# Altium schematic symbol library lamp_controller.SchLib: 88 symbols (part 2 of 3)
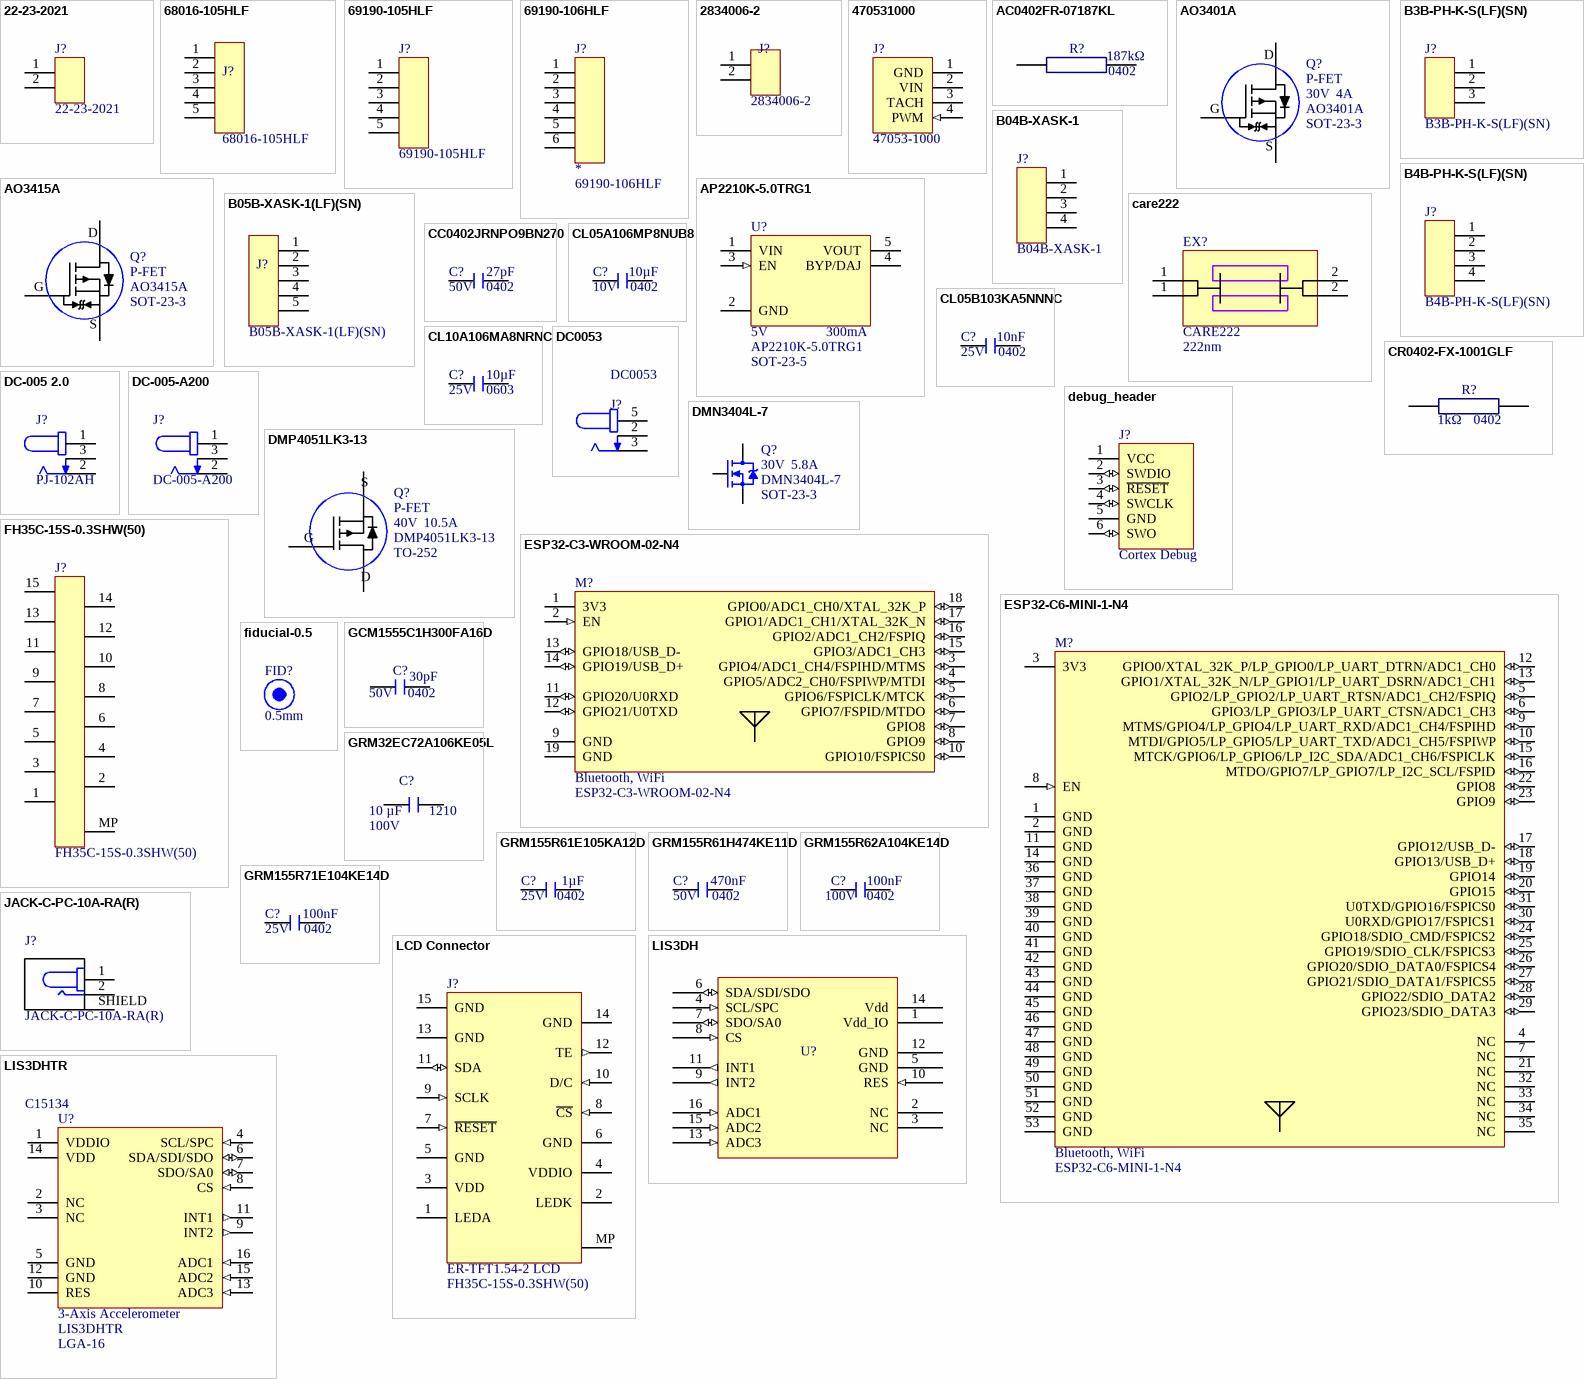
[diagram p3: symbols 22-23-2021 to LIS3DHTR]

## GRM155R61E105KA12D
designator C?  Size Code: 0402  Capacitance: 1µF  Voltage: 25V  (hidden comment: GRM155R61E105KA12D)
1 µF, 25 V, X5R, 0402 Chip capacitor; Manufacturer: Murata; house_part_number: C-1uF-0402-002; Dielectric Material: Ceramic; Multilayer: Yes; Negative Tolerance: 10%; Supplier 1: Digi-Key; Supplier Part Number 1: 490-10017-1-ND; RoHS: Yes; Category: Ceramic Capacitors; Stock 1: 145965; Pricing 1: 1=0.11000, 10=0.08300, 50=0.04560, 100=0.03720, 500=0.02656, 1000=0.02087, 2500=0.01898, 5000=0.01746 (USD); Mount: Surface Mount; Number of Pins: 2; Package Shape: Rectangular; Terminal Finish: Nickel; Min Operating Temperature: -55°C; Max Operating Temperature: 85°C; JESD-609 Code: e3; Capacitor Type: Ceramic; Package Style: SMTMeter; Packaging: Tape and Reel; Positive Tolerance: 10%; Temperature Characteristics Code: X5R; Termination: Wraparound; Length: 1mm; Width: 0.5mm; Height: 0.5mm; REACH SVHC: Yes; RoHS Compliant: Yes; ComponentLink1URL: https://datasheet.ciiva.com:443/pdfs/VipMasterIC/IC/MURE/MURE-S-A0004362469/MURE-S-A0004364524-1.pdf?src-supplier=IHS+Markit; ComponentLink1Description: https://datasheet.ciiva.com:443/pdfs/VipMasterIC/IC/MURE/MURE-S-A0004362469/MURE-S-A0004364524-1.pdf?src-supplier=IHS+Markit; ComponentLink2URL: https://datasheet.ciiva.com/7719/1666664-7719006.pdf?src-supplier=Element14; ComponentLink2Description: https://datasheet.ciiva.com/7719/1666664-7719006.pdf?src-supplier=Element14; ComponentLink3URL: https://datasheet.ciiva.com/22732/1666664-22732122.pdf?src-supplier=Element14; ComponentLink3Description: https://datasheet.ciiva.com/22732/1666664-22732122.pdf?src-supplier=Element14; Manufacturer Part Number: GRM155R61E105KA12D
footprint 0402_capacitor (0402 chip capacitor)
pins: 1, 2

## GRM155R61H474KE11D
designator C?  Package: 0402  Voltage Rating (DC): 50V  Capacitance: 470nF  (hidden comment: GRM155R61H474KE11D)
470 nF, 50 V, X5R, 0402 Chip capacitor; Manufacturer: Murata; house_part_number: C-470nF-0402-002; Tolerance: 10%; Supplier 1: Digi-Key; Supplier Part Number 1: 490-16354-1-ND; RoHS: Yes; Category: Ceramic Capacitors; Pricing 1: 1=0.20000, 10=0.14600, 50=0.08260, 100=0.06840, 500=0.04798, 1000=0.03972, 2500=0.03696, 5000=0.03382 (USD); Dielectric: X5R; Length: 1mm; Width: 500um; Thickness: 500um; RoHS Compliant: Yes; ComponentLink1URL: http://search.murata.co.jp/Ceramy/image/img/A01X/G101/ENG/GRM155R61H474KE11-01.pdf?src-supplier=Digi-Key; ComponentLink1Description: http://search.murata.co.jp/Ceramy/image/img/A01X/G101/ENG/GRM155R61H474KE11-01.pdf?src-supplier=Digi-Key; ComponentLink2URL: https://search.murata.co.jp/Ceramy/image/img/A01X/G101/ENG/GRM155R61H474KE11-01.pdf?src-supplier=Digi-Key; ComponentLink2Description: https://search.murata.co.jp/Ceramy/image/img/A01X/G101/ENG/GRM155R61H474KE11-01.pdf?src-supplier=Digi-Key; Manufacturer Part Number: GRM155R61H474KE11D
footprint 0402_capacitor (0402 chip capacitor)
pins: 1, 2

## GRM155R62A104KE14D
designator C?  value 100nF  Case/Package: 0402  Rated DC Voltage (URdc): 100V  (hidden comment: *)
100 nF, 100 V, X7R, 0402 Chip capacitor; Manufacturer: Murata; Manufacturer Part Number: GRM155R62A104KE14D; Dielectric Material: Ceramic; Multilayer: Yes; Tolerance  (fill in as +-): 10%; Temperature Characteristics Code: X5R; Supplier 1: LCSC; RoHS: Yes; Category: Ceramic Capacitors; Stock 1: 283300; Pricing 1: 50=0.0085, 500=0.0066, 1500=0.0057, 10000=0.0051, 20000=0.0048, 50000=0.0047 (USD); Mounting Technology: Surface Mount; Pins: 2; Package Shape: Rectangular; Terminal Finish: Nickel; Min Operating Temperature: -55°C; Max Operating Temperature: 85°C; JESD-609 Code: e3; Capacitor Type: Ceramic; Packaging: Tape and Reel; Tolerance (fill in as +-): 10%; Termination: Wraparound; Reach SVHC Compliant: Yes; RoHS Compliant: Yes; ComponentLink1URL: https://datasheet.ciiva.com:443/pdfs/VipMasterIC/IC/MURE/MURE-S-A0004362469/MURE-S-A0004364737-1.pdf?src-supplier=IHS+Markit; ComponentLink1Description: https://datasheet.ciiva.com:443/pdfs/VipMasterIC/IC/MURE/MURE-S-A0004362469/MURE-S-A0004364737-1.pdf?src-supplier=IHS+Markit; ComponentLink2URL: http://www.farnell.com/datasheets/2079151.pdf?src-supplier=Farnell; ComponentLink2Description: http://www.farnell.com/datasheets/2079151.pdf?src-supplier=Farnell; ComponentLink3URL: http://www.mouser.com/ds/2/281/c02e-2905.pdf?src-supplier=Mouser; ComponentLink3Description: http://www.mouser.com/ds/2/281/c02e-2905.pdf?src-supplier=Mouser; ComponentLink4URL: http://www.farnell.com/datasheets/2079151.pdf?src-supplier=Element14; ComponentLink4Description: http://www.farnell.com/datasheets/2079151.pdf?src-supplier=Element14; ComponentLink5URL: http://www.farnell.com/datasheets/2079151.pdf?src-supplier=Newark; ComponentLink5Description: http://www.farnell.com/datasheets/2079151.pdf?src-supplier=Newark; ComponentLink6URL: https://datasheet.octopart.com/GRM155R62A104KE14D-Murata-datasheet-149523038.pdf?src-supplier=Newark; ComponentLink6Description: https://datasheet.octopart.com/GRM155R62A104KE14D-Murata-datasheet-149523038.pdf?src-supplier=Newark; ComponentLink7URL: https://datasheet.octopart.com/GRM155R62A104KE14D-Murata-datasheet-66077071.pdf?src-supplier=Element14; ComponentLink7Description: https://datasheet.octopart.com/GRM155R62A104KE14D-Murata-datasheet-66077071.pdf?src-supplier=Element14; ComponentLink8URL: http://search.murata.co.jp/Ceramy/image/img/A01X/G101/ENG/GRM155R62A104KE14-01.pdf?src-supplier=Digikey; ComponentLink8Description: http://search.murata.co.jp/Ceramy/image/img/A01X/G101/ENG/GRM155R62A104KE14-01.pdf?src-supplier=Digikey; ComponentLink9URL: https://datasheet.octopart.com/GRM155R62A104KE14D-Murata-datasheet-22122223.pdf?src-supplier=Future+Electronics; ComponentLink9Description: https://datasheet.octopart.com/GRM155R62A104KE14D-Murata-datasheet-22122223.pdf?src-supplier=Future+Electronics; ComponentLink10URL: https://datasheet.octopart.com/GRM155R62A104KE14D-Murata-datasheet-165579666.pdf?src-supplier=TME; ComponentLink10Description: https://datasheet.octopart.com/GRM155R62A104KE14D-Murata-datasheet-165579666.pdf?src-supplier=TME; Supplier Part Number 1: C162178
footprint 0402_capacitor (0402 chip capacitor)
pins: 1, 2

## GRM155R71E104KE14D
designator C?  Case Code (Imperial): 0402  Voltage: 25V  Capacitance: 100nF  (hidden comment: GRM155R71E104KE14D)
100 nF, 25 V, X7R, 0402 Chip capacitor; Manufacturer: Murata; house_part_number: C-100nF-0402-002; Dielectric Material: Ceramic; Tolerance: 10%; Supplier 1: Digi-Key; Supplier Part Number 1: 490-10698-1-ND; RoHS: Yes; Category: Ceramic Capacitors; Pricing 1: 1=0.10000, 10=0.02700, 50=0.01460, 100=0.01190, 500=0.00848, 1000=0.00666, 2500=0.00605, 5000=0.00557 (USD); Mount: Surface Mount; Case/Package: 0402; Case Code (Metric): 1005; Weight: 0.000212oz; Min Operating Temperature: -55°C; Max Operating Temperature: 125°C; Packaging: Tape and Reel; Voltage Rating: 25V; Dielectric: X7R; Termination: SMD/SMT; Resistor Type: Ceramic; Voltage Rating (DC): 25V; Package Quantity: 10000; Length: 1mm; Width: 0.02inch; Height: 0.5mm; Thickness: 0.022inch; Depth: 0.5mm; REACH SVHC: Unknown; Lead Free: Lead Free; RoHS Compliant: Yes; ComponentLink1URL: http://www.farnell.com/datasheets/1872206.pdf?src-supplier=Farnell; ComponentLink1Description: http://www.farnell.com/datasheets/1872206.pdf?src-supplier=Farnell; ComponentLink2URL: http://components.arrow.com/part/dataview/0323_06361249?src-supplier=Arrow+Europe; ComponentLink2Description: http://components.arrow.com/part/dataview/0323_06361249?src-supplier=Arrow+Europe; ComponentLink3URL: http://uk.rs-online.com/webdocs/144c/0900766b8144c113.pdf?src-supplier=RSComponents; ComponentLink3Description: http://uk.rs-online.com/webdocs/144c/0900766b8144c113.pdf?src-supplier=RSComponents; ComponentLink4URL: http://www.farnell.com/datasheets/2048008.pdf?src-supplier=Farnell; ComponentLink4Description: http://www.farnell.com/datasheets/2048008.pdf?src-supplier=Farnell; ComponentLink5URL: http://www.mouser.com/ds/2/281/c02e-2905.pdf?src-supplier=Mouser; ComponentLink5Description: http://www.mouser.com/ds/2/281/c02e-2905.pdf?src-supplier=Mouser; ComponentLink6URL: http://www.farnell.com/datasheets/2048008.pdf?src-supplier=Newark; ComponentLink6Description: http://www.farnell.com/datasheets/2048008.pdf?src-supplier=Newark; ComponentLink7URL: https://search.murata.co.jp/Ceramy/image/img/A01X/G101/ENG/GRM155R71E104KE14-01.pdf?src-supplier=Digi-Key; ComponentLink7Description: https://search.murata.co.jp/Ceramy/image/img/A01X/G101/ENG/GRM155R71E104KE14-01.pdf?src-supplier=Digi-Key; ComponentLink8URL: http://www.farnell.com/datasheets/2048008.pdf?src-supplier=Element14; ComponentLink8Description: http://www.farnell.com/datasheets/2048008.pdf?src-supplier=Element14; ComponentLink9URL: http://psearch.en.murata.com/capacitor/product/GRM155R71E104KE14%23.pdf?src-supplier=Avnet; ComponentLink9Description: http://psearch.en.murata.com/capacitor/product/GRM155R71E104KE14%23.pdf?src-supplier=Avnet; Manufacturer Part Number: GRM155R71E104KE14D
footprint 0402_capacitor (0402 chip capacitor)
pins: 1, 2

## JACK-C-PC-10A-RA(R)
designator J?  Manufacturer Part Number: JACK-C-PC-10A-RA(R)  (hidden comment: *)
5.50mm x 2.1mm, 10 A, right angle barrel connector; Manufacturer: GlobTek; Connector Type: Jack; Gender: Male; Shielding: Shielded; Supplier 1: Digi-Key; RoHS: No; Category: Power Connectors; Stock 1: 3147; Pricing 1: 1=3.86, 10=3.506, 25=3.3204, 50=3.2432, 100=3.0888, 250=2.70272, 500=2.62548, 1000=2.23938, 2500=2.08494 (USD); Mounting Technology: Through Hole; Contact Plating: Nickel; Contact Material: Copper; Housing Material: Polyphthalamide; Min Operating Temperature: -25°C; Max Operating Temperature: 85°C; Packaging: Bulk; Termination: Solder; Series: -; ComponentLink1URL: https://www.globtek.com/pdf/manual-datasheets/JACK-C-PC-10A-RA%28R%29.pdf?src-supplier=Digi-Key; ComponentLink1Description: https://www.globtek.com/pdf/manual-datasheets/JACK-C-PC-10A-RA%28R%29.pdf?src-supplier=Digi-Key; Supplier Part Number 1: 1939-1086-ND
footprint JACK-C-PC-10A-RA(R) (5.5mm x 2.1mm right angle barrel jack)
pins: 1, 2, SHIELD

## LCD Connector
designator J?, comment ER-TFT1.54-2 LCD  Manufacturer Part Number: FH35C-15S-0.3SHW(50)
ER-TFT1.54-2 1.54" IPS LCD, 240x240, ST7789 controller, FH35C-15S-0.3SHW(50) connector, top and bottom contacts; Manufacturer: HRS; Connector Type: CARD EDGE CONNECTOR; Contact Pattern: STAGGERED; Contact Resistance: 100mR; Contact Style: BELLOWED TYPE; Dielectric Withstanding Voltage (AC): 90V; Durability: 10Cycles; Insulation Resistance: 50MR; Number Of PCB Rows: 2; Rated Current (Signal): 200mA; Number of Contacts: 15; Body Breadth: 0.035inch; Body Depth: 0.132inch; Body Length: 0.24inch; Mating Contact Pitch: 0.024inch; Mounting Option 1: LOCKING; PCB Contact Row Spacing: 2.8702mm; Reliability: COMMERCIAL; Supplier 1: Digikey; Category: FFC / FPC; Stock 1: 3489; Pricing 1: 1=1.87, 10=1.525, 25=1.4056, 50=1.3216, 100=1.2428, 250=1.14576, 500=1.07746, 1000=1.01326, 2500=0.9375 (USD); Mounting Technology: Board; Contact Material: Bronze; Contact Finish - Mating: AU ON NI; Min Operating Temperature: -55°C; Max Operating Temperature: 85°C; Mounting Style: RIGHT ANGLE; Number of Rows Loaded: 2; PCB Contact Pattern: STAGGERED; Termination: SMD/SMT; Terminal Pitch: 0.6096mm; RoHS Compliant: Yes; ComponentLink1URL: https://datasheet.ciiva.com:443/pdfs/VipMasterIC/IC/HIRO/HIRO-S-A0001800865/HIRO-S-A0001800865-1.pdf?src-supplier=IHS+Markit; ComponentLink1Description: https://datasheet.ciiva.com:443/pdfs/VipMasterIC/IC/HIRO/HIRO-S-A0001800865/HIRO-S-A0001800865-1.pdf?src-supplier=IHS+Markit; ComponentLink2URL: https://datasheet.ciiva.com/29758/ed-fh35c-20140305-29758967.pdf?src-supplier=Digikey; ComponentLink2Description: https://datasheet.ciiva.com/29758/ed-fh35c-20140305-29758967.pdf?src-supplier=Digikey; Supplier Part Number 1: 26-FH35C-15S-0.3SHW(50)CT-ND
footprint FH35C-15S-0.3SHW(50) (Flat flex connector)
pins: 1 LEDA "LED Anode", 2 LEDK "LED Cathode", 3 VDD (power) "Power Supply for Analog", 4 VDDIO (power) "Power Supply for I/O System.", 5 GND (power), 6 GND (power), 7 ~{RESET} (in) "This signal will reset the device and it must be applied to properly initialize the chip. Signal is active low.", 8 ~{CS} (in) "Chip selection Pin. Low=Enable High=Disable", 9 SCLK (in) "This pin is used to be serial interface clock.", 10 D/C (in) "Display data/command selection pin in 4-line serial interface.", 11 SDA (io) "SPI interface input/output pin. The data is latched on the rising edge of the SCL signal.", 12 TE (out) "Tearing effect signal is used to synchronize MCU to frame memory writing", 13 GND (power), 14 GND (power), 15 GND (power), MP "Connector mounting pad"

## LIS3DH
designator U?, comment Accelerometer, LGA-16  (value not drawn)
ACCEL 2-16G I2C/SPI 16LGA; Manufacturer: STMicroelectronics; Manufacturer Part Number: LIS3DHTR; Interface: I2C,SPI; Axis: X, Y, Z; Bandwidth: 5kHz; Output Type: Digital; Sensor Type: 3 Axis; Max Supply Voltage: 3.6V; Min Supply Voltage: 1.71V; Resolution: 16b; Operating Supply Voltage: 2.5V; Operating Supply Current: 11uA; Supplier: Mouser; Supplier Part Number: 511-LIS3DHTR; RoHS: Yes; Category: Accelerometers; Stock: 29398; Pricing: 1=2.06, 10=1.41, 50=1.41, 100=1.3, 500=1.19, 1000=1.11, 4000=0.984, 8000=0.936, 10000=0.936 (USD); Case/Package: LGA; Pins: 16; Min Operating Temperature: -40°C; Max Operating Temperature: 85°C; Series: -; Packaging: Tape and Reel; Package Quantity: 4000; Max Supply Voltage (DC): 3.6V; Min Supply Voltage (DC): 1.71V; Length: 3mm; Width: 3mm; Height: 1mm; Depth: 3mm; Radiation Hardening: No; Lead Free: Lead Free; RoHS Compliant: Yes; Reach SVHC Compliant: No; ComponentLink1URL: https://datasheet.ciiva.com/7621/1718591-7621744.pdf?src-supplier=Element14; ComponentLink1Description: https://datasheet.ciiva.com/7621/1718591-7621744.pdf?src-supplier=Element14; ComponentLink2URL: https://datasheet.ciiva.com/5296/cd00274221-117431-5296513.pdf?src-supplier=Mouser; ComponentLink2Description: https://datasheet.ciiva.com/5296/cd00274221-117431-5296513.pdf?src-supplier=Mouser; ComponentLink3URL: https://datasheet.ciiva.com/2810/cd00274221-2810009.pdf?src-supplier=Digi-Key; ComponentLink3Description: https://datasheet.ciiva.com/2810/cd00274221-2810009.pdf?src-supplier=Digi-Key; ComponentLink4URL: https://datasheet.ciiva.com/2810/cd00274221-2810008.pdf?src-supplier=Digi-Key; ComponentLink4Description: https://datasheet.ciiva.com/2810/cd00274221-2810008.pdf?src-supplier=Digi-Key; ComponentLink5URL: https://datasheet.ciiva.com/2810/cd00274221-2810010.pdf?src-supplier=Digi-Key; ComponentLink5Description: https://datasheet.ciiva.com/2810/cd00274221-2810010.pdf?src-supplier=Digi-Key; ComponentLink6URL: https://datasheet.ciiva.com/48495/cd00274221-48495849.pdf?src-supplier=Avnet; ComponentLink6Description: https://datasheet.ciiva.com/48495/cd00274221-48495849.pdf?src-supplier=Avnet; ComponentLink7URL: https://datasheet.ciiva.com/3271/cd00274221-3271807.pdf?src-supplier=Avnet; ComponentLink7Description: https://datasheet.ciiva.com/3271/cd00274221-3271807.pdf?src-supplier=Avnet; ComponentLink8URL: https://datasheet.ciiva.com/16216/cd00274221-16216362.pdf?src-supplier=Future+Electronics; ComponentLink8Description: https://datasheet.ciiva.com/16216/cd00274221-16216362.pdf?src-supplier=Future+Electronics
footprint PQFN50P300X300X100-16N (PQFN, 16-Leads, Body 3.00x3.00mm, Pitch 0.50mm, IPC Medium Density)
pins: 1 Vdd_IO (power) "Power supply for I/O pins", 2 NC "Not connected", 3 NC "Not connected", 4 SCL/SPC (in) "Clock", 5 GND (power) "0V supply", 6 SDA/SDI/SDO (io) "I2C Serial data/SPI data in/3-wire data out", 7 SDO/SA0 (io) "SPI serial data output (SDO)/I2C address LSB", 8 CS (in) "Low: SPI enabled/ High: I2C enabled", 9 INT2 (out) "Inertial interrupt 2", 10 RES (in) "Connect to GND", 11 INT1 (out) "Inertial interrupt 1", 12 GND (power) "0V supply", 13 ADC3 (in) "Analog-to-digital converter input 3", 14 Vdd (power) "Power supply", 15 ADC2 (in) "Analog-to-digital converter input 2", 16 ADC1 (in) "Analog-to-digital converter input 1"

## LIS3DHTR
designator U?, comment 3-Axis Accelerometer  Case/Package: LGA-16  Manufacturer Part Number: LIS3DHTR  Supplier Part Number 1: C15134
3-Axis accelerometer, 16-bit, I2C/SPI, LGA-16; Manufacturer: STMicroelectronics; Max Supply Voltage: 3.6V; Min Supply Voltage: 1.71V; Operating Supply Voltage: 2.5V; Bandwidth: 5kHz; Interface: I2C,SPI; Resolution: 16b; Operating Supply Current: 11uA; Sensor Type: 3 Axis; Output Type: Digital; Axis: X, Y, Z; Supplier: Avnet; Supplier Part Number: LIS3DHTR; RoHS: Yes; Category: Accelerometers; Stock: 40000; Pricing: 4000=0.94095, 8000=0.92155, 16000=0.90215 (USD); Pins: 16; Min Operating Temperature: -40°C; Max Operating Temperature: 85°C; Package Quantity: 4000; Packaging: Tape and Reel; Max Supply Voltage (DC): 3.6V; Min Supply Voltage (DC): 1.71V; Series: -; Length: 3mm; Width: 3mm; Height: 1mm; Depth: 3mm; Radiation Hardening: No; Reach SVHC Compliant: No; Lead Free: Lead Free; RoHS Compliant: Yes; ComponentLink1URL: https://datasheet.ciiva.com/7621/1718591-7621744.pdf?src-supplier=Element14; ComponentLink1Description: https://datasheet.ciiva.com/7621/1718591-7621744.pdf?src-supplier=Element14; ComponentLink2URL: https://datasheet.ciiva.com/5296/cd00274221-117431-5296513.pdf?src-supplier=Mouser; ComponentLink2Description: https://datasheet.ciiva.com/5296/cd00274221-117431-5296513.pdf?src-supplier=Mouser; ComponentLink3URL: https://datasheet.ciiva.com/2810/cd00274221-2810009.pdf?src-supplier=Digikey; ComponentLink3Description: https://datasheet.ciiva.com/2810/cd00274221-2810009.pdf?src-supplier=Digikey; ComponentLink4URL: https://datasheet.ciiva.com/2810/cd00274221-2810008.pdf?src-supplier=Digikey; ComponentLink4Description: https://datasheet.ciiva.com/2810/cd00274221-2810008.pdf?src-supplier=Digikey; ComponentLink5URL: https://datasheet.ciiva.com/2810/cd00274221-2810010.pdf?src-supplier=Digikey; ComponentLink5Description: https://datasheet.ciiva.com/2810/cd00274221-2810010.pdf?src-supplier=Digikey; ComponentLink6URL: https://datasheet.ciiva.com/48495/cd00274221-48495849.pdf?src-supplier=Avnet; ComponentLink6Description: https://datasheet.ciiva.com/48495/cd00274221-48495849.pdf?src-supplier=Avnet; ComponentLink7URL: https://datasheet.ciiva.com/3271/cd00274221-3271807.pdf?src-supplier=Avnet; ComponentLink7Description: https://datasheet.ciiva.com/3271/cd00274221-3271807.pdf?src-supplier=Avnet; ComponentLink8URL: https://datasheet.ciiva.com/16216/cd00274221-16216362.pdf?src-supplier=Future+Electronics; ComponentLink8Description: https://datasheet.ciiva.com/16216/cd00274221-16216362.pdf?src-supplier=Future+Electronics; Supplier 1: LCSC; house_part_number: LIS3DHTR
footprint LGA50P300X300X100-16N (LGA, 16-Leads, Body 3.00x3.00mm, Pitch 0.50mm, IPC Medium Density)
pins: 1 VDDIO (power), 2 NC (power), 3 NC (power), 4 SCL/SPC (in), 5 GND (power), 6 SDA/SDI/SDO (io), 7 SDO/SA0 (io), 8 CS (in), 9 INT2 (out), 10 RES (power), 11 INT1 (out), 12 GND (power), 13 ADC3 (in), 14 VDD (power), 15 ADC2 (in), 16 ADC1 (in)

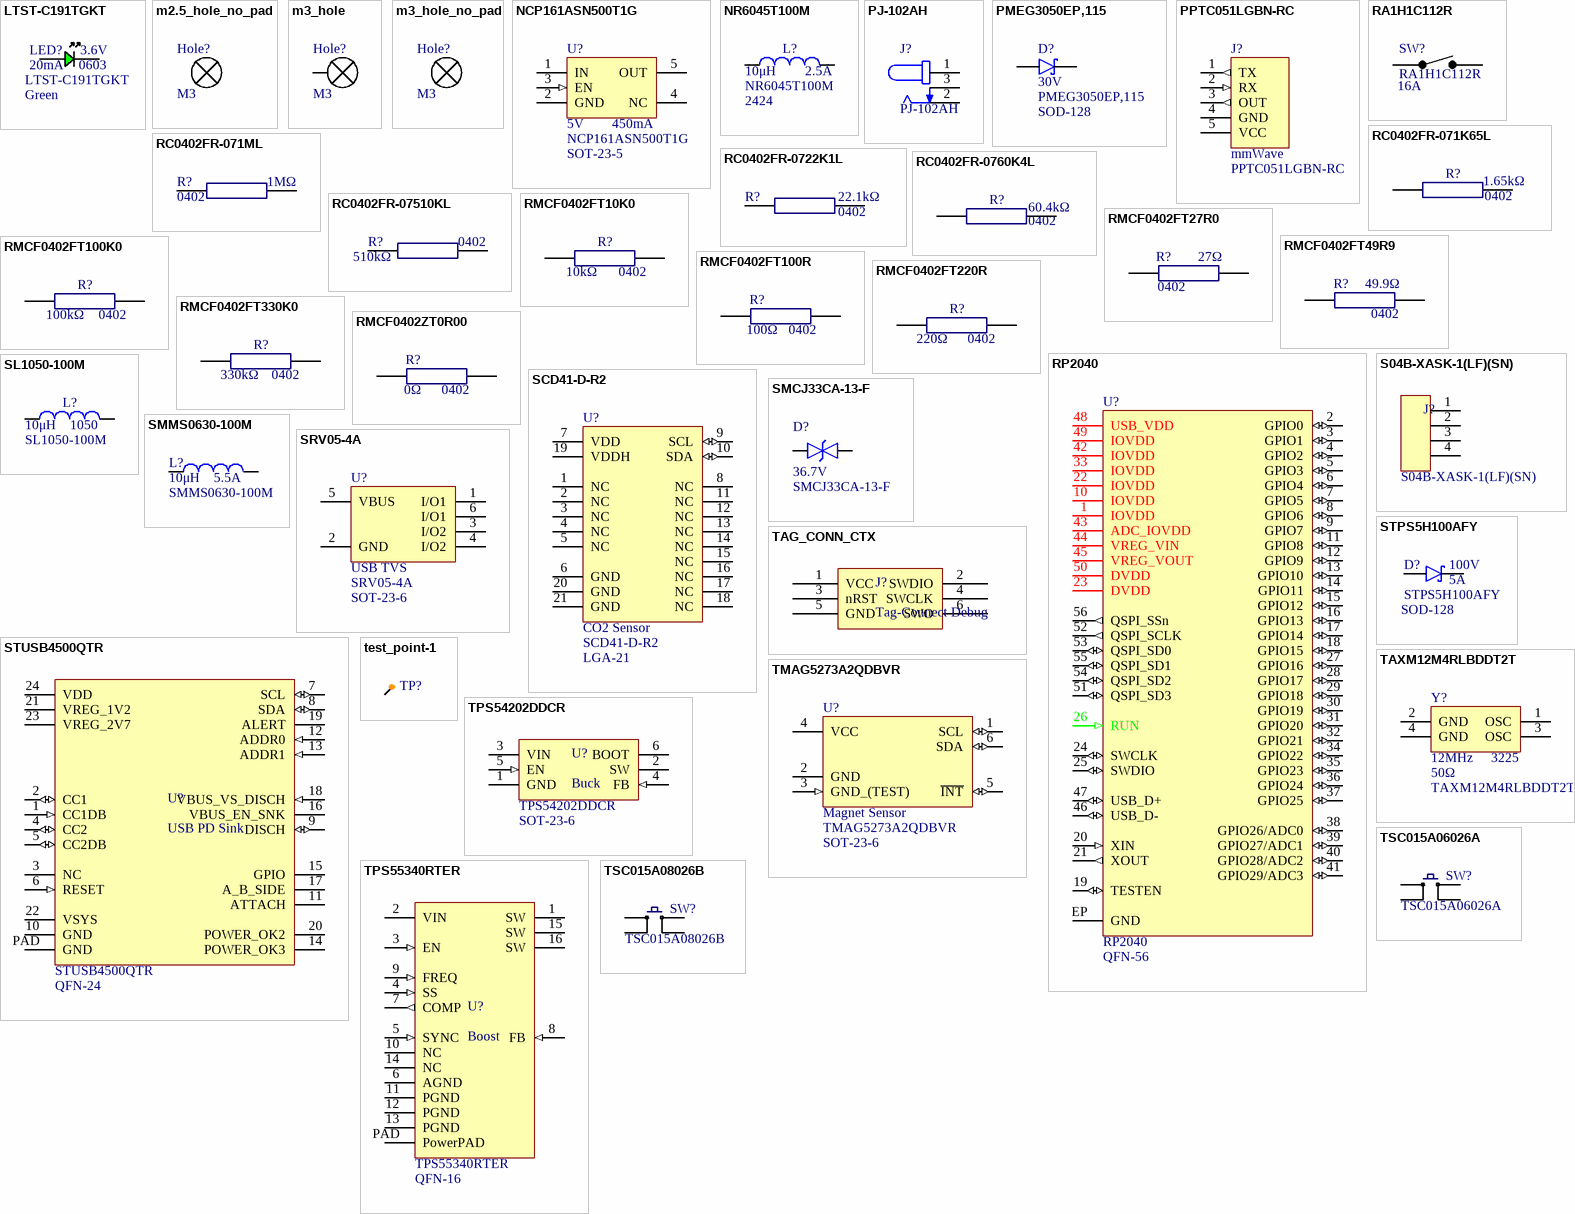
[diagram p1: symbols LTST-C191TGKT to TSC015A08026B]

## LTST-C191TGKT
designator LED?  Forward Current-Max: 20mA  Forward Voltage-Max: 3.6V  Color: Green  Package: 0603  (hidden comment: LTST-C191TGKT)
Green LED, 0603; Manufacturer: Vishay Lite-On; Shape: Rectangular; Lens Style: WATER CLEAR; Luminous Intensity-Min: 130cd; Luminous Intensity-Nom: 260.5mcd; Number of Functions: 1; Optoelectronic Device Type: SINGLE COLOR LED; Reverse Voltage-Max: 5V; Viewing Angle: 130°; Overall Height: 0.55mm; Supplier 1: Digi-Key; RoHS: Yes; Category: LEDs; Stock 1: 478546; Pricing 1: 1=0.53000, 10=0.32300, 100=0.18580, 1000=0.14544, 2000=0.13332 (USD); Mount: Surface Mount; Number of Pins: 2; Color@wavelength: Green; Terminal Finish: Tin; Min Operating Temperature: -20°C; Max Operating Temperature: 80°C; JESD-609 Code: e3; Packaging: Tape and Reel; Size: 1.1mm; Terminal Pitch: 1.5mm; Reach SVHC Compliant: Yes; RoHS Compliant: Yes; ComponentLink1URL: https://datasheet.ciiva.com:443/pdfs/VipMasterIC/IC/LITE/LITE-S-A0003155974/LITE-S-A0003155974-1.pdf?src-supplier=IHS+Markit; ComponentLink1Description: https://datasheet.ciiva.com:443/pdfs/VipMasterIC/IC/LITE/LITE-S-A0003155974/LITE-S-A0003155974-1.pdf?src-supplier=IHS+Markit; ComponentLink2URL: https://datasheet.ciiva.com/16444/ltst-c191tgkt-16444757.pdf?src-supplier=Future+Electronics; ComponentLink2Description: https://datasheet.ciiva.com/16444/ltst-c191tgkt-16444757.pdf?src-supplier=Future+Electronics; ComponentLink3URL: https://datasheet.ciiva.com/11773/0900766b80dc02b5-11773683.pdf?src-supplier=RSComponents; ComponentLink3Description: https://datasheet.ciiva.com/11773/0900766b80dc02b5-11773683.pdf?src-supplier=RSComponents; ComponentLink4URL: https://datasheet.ciiva.com/12403/lite-on-ltst-c191tgkt-190137-12403796.pdf?src-supplier=Mouser; ComponentLink4Description: https://datasheet.ciiva.com/12403/lite-on-ltst-c191tgkt-190137-12403796.pdf?src-supplier=Mouser; ComponentLink5URL: https://datasheet.ciiva.com/6352/s-110-ltst-c191tgkt-6352682.pdf?src-supplier=Digi-Key; ComponentLink5Description: https://datasheet.ciiva.com/6352/s-110-ltst-c191tgkt-6352682.pdf?src-supplier=Digi-Key; ComponentLink6URL: https://datasheet.ciiva.com/6352/s-110-ltst-c191tgkt-6352684.pdf?src-supplier=Digi-Key; ComponentLink6Description: https://datasheet.ciiva.com/6352/s-110-ltst-c191tgkt-6352684.pdf?src-supplier=Digi-Key; ComponentLink7URL: https://datasheet.ciiva.com/6352/s-110-ltst-c191tgkt-6352683.pdf?src-supplier=Digi-Key; ComponentLink7Description: https://datasheet.ciiva.com/6352/s-110-ltst-c191tgkt-6352683.pdf?src-supplier=Digi-Key; Supplier Part Number 1: 160-1888-1-ND; House Part Number: LTST-C191TGKT; Manufacturer Part Number: LTST-C191TGKT
footprint 0603_diode
pins: 1 A, 2 K

## m2.5_hole_no_pad
designator Hole?, comment M3  (no BOM)
M2.5 clearance hole; pickable: no
footprint m2.5_hole_no_pad (M2.5 hole, no pad)

## m3_hole
designator Hole?, comment M3  (no BOM)
M3 clearance hole; pickable: no
footprint m3_hole (M3 hole, with via stitching)
pins: 1

## m3_hole_no_pad
designator Hole?, comment M3  (no BOM)
M3 clearance hole; pickable: no
footprint m3_hole_no_pad (M3 hole, with via stitching)

## NCP161ASN500T1G
designator U?  Output Current: 450mA  Min Output Voltage: 5V  Case/Package: SOT-23-5  Manufacturer Part Number: NCP161ASN500T1G  (hidden comment: *)
5 V, 450 mA LDO, SOT-23-5; Manufacturer: ON Semiconductor; Output Type: Fixed; Output Configuration: Positive; Number of Regulators: 1; Max Supply Voltage: 5.5V; Quiescent Current: 23uA; Power Supply Rejection Ratio (PSRR): 48dB; Accuracy: 2%; Nominal Supply Current: 18uA; Number of Channels: 1NUMBER; Supplier 1: LCSC; RoHS: Yes; Category: Voltage Regulators - Linear; Stock 1: 2110; Pricing 1: 1=0.5116, 10=0.4084, 30=0.356, 100=0.3052, 500=0.2743, 1000=0.2589 (USD); Mounting Technology: Surface Mount; Min Operating Temperature: -40°C; Max Operating Temperature: 125°C; Series: -; Packaging: Tape and Reel; Number of Outputs: 1NUMBER; Output Voltage: 5V; Height: 1.45mm; RoHS Compliant: Yes; ComponentLink1URL: https://www.onsemi.com/pub/Collateral/NCP161-D.PDF?src-supplier=Digikey; ComponentLink1Description: https://www.onsemi.com/pub/Collateral/NCP161-D.PDF?src-supplier=Digikey; ComponentLink2URL: https://datasheet.octopart.com/NCP161ASN500T1G-onsemi-datasheet-155341620.pdf?src-supplier=Future+Electronics; ComponentLink2Description: https://datasheet.octopart.com/NCP161ASN500T1G-onsemi-datasheet-155341620.pdf?src-supplier=Future+Electronics; ComponentLink3URL: https://datasheet.octopart.com/NCP161ASN500T1G-ON-Semiconductor-datasheet-99719185.pdf?src-supplier=Newark; ComponentLink3Description: https://datasheet.octopart.com/NCP161ASN500T1G-ON-Semiconductor-datasheet-99719185.pdf?src-supplier=Newark; Supplier Part Number 1: C603635
footprint SOT-23-5 (SOT23, 5-Leads, Body 2.90x2.80mm, Pitch 0.95mm, IPC Medium Density)
pins: 1 IN (power) "Input voltage supply pin", 2 GND (power) "Common ground connection", 3 EN (in) "Chip enable: Applying VEN < 0.4 V disables the regulator, Pulling VEN > 1.2 V enables the LDO.", 4 NC, 5 OUT (power) "Regulated output voltage. The output should be bypassed with small 1μF ceramic capacitor."

## NR6045T100M
designator L?  Inductance-Nom (L): 10μH  Case/Size Code: 2424  Max Current Rating: 2.5A  Manufacturer Part Number: NR6045T100M  (hidden comment: *)
10 μH, 2.5 A, 20%, 2424 Inductor; Manufacturer: Taiyo Yuden; Core Material: Ferrite; Inductor Application: DC-DC CONVERTER; Inductor Type: GENERAL PURPOSE INDUCTOR; Channels: 1; Self Resonant Frequency: 12MHz; Shape/Size Description: RECTANGULAR PACKAGE; Shielding: Shielded; Test Frequency: 100kHz; Package Height: 4.5mm; Package Length: 6mm; DC Resistance (DCR): 47mΩ; Supplier 1: LCSC; RoHS: Yes; Category: Fixed Inductors; Stock 1: 325; Pricing 1: 5=0.1541, 50=0.1181, 150=0.1027, 1500=0.0694, 3000=0.0609, 4500=0.0557 (USD); Pins: 2; Terminal Finish: Nickel; Min Operating Temperature: -25°C; Max Operating Temperature: 120°C; Tolerance: 20%; JESD-609 Code: e3; Construction: Chip; Package Style: SMTMeter; Packaging: Tape and Reel; Surface Mount: Yes; Terminal Placement: Dual Ended; Termination: One Surface; Package Width: 6mm; Reach SVHC Compliant: Yes; RoHS Compliant: Yes; ComponentLink1URL: https://datasheet.ciiva.com:443/pdfs/VipMasterIC/IC/TAIY/TAIY-S-A0009101225/TAIY-S-A0009101421-1.pdf?src-supplier=IHS+Markit; ComponentLink1Description: https://datasheet.ciiva.com:443/pdfs/VipMasterIC/IC/TAIY/TAIY-S-A0009101225/TAIY-S-A0009101421-1.pdf?src-supplier=IHS+Markit; ComponentLink2URL: https://datasheet.ciiva.com/7197/nr6045t100m-ss-7197633.pdf?src-supplier=Newark; ComponentLink2Description: https://datasheet.ciiva.com/7197/nr6045t100m-ss-7197633.pdf?src-supplier=Newark; ComponentLink3URL: https://datasheet.ciiva.com/15988/453nr6045t100m-15988119.pdf?src-supplier=Onlinecomponents.com; ComponentLink3Description: https://datasheet.ciiva.com/15988/453nr6045t100m-15988119.pdf?src-supplier=Onlinecomponents.com; ComponentLink4URL: https://datasheet.ciiva.com/1065/wound04-e-1065629.pdf?src-supplier=Digi-Key; ComponentLink4Description: https://datasheet.ciiva.com/1065/wound04-e-1065629.pdf?src-supplier=Digi-Key; ComponentLink5URL: https://datasheet.ciiva.com/1065/wound04-e-1065628.pdf?src-supplier=Digi-Key; ComponentLink5Description: https://datasheet.ciiva.com/1065/wound04-e-1065628.pdf?src-supplier=Digi-Key; ComponentLink6URL: https://datasheet.ciiva.com/1065/wound04-e-1065630.pdf?src-supplier=Digi-Key; ComponentLink6Description: https://datasheet.ciiva.com/1065/wound04-e-1065630.pdf?src-supplier=Digi-Key; ComponentLink7URL: https://datasheet.ciiva.com/4955/wound04-e-4955382.pdf?src-supplier=Mouser; ComponentLink7Description: https://datasheet.ciiva.com/4955/wound04-e-4955382.pdf?src-supplier=Mouser; Supplier Part Number 1: C174289
footprint 2424_inductor (Precision Wire Wound Inductor, 2-Leads, Body 6.00x6.00mm, IPC Medium Density)
pins: 1, 2

## PJ-102AH
designator J?
2x5.5 mm Barrel jack; Manufacturer: CUI; Voltage Rating: 24V; Gender: Male; Shielding: Unshielded; Current Rating: 5A; Insulation Resistance: 50MR; Number of Conductors: 2; Supplier 1: Digi-Key; Stock 1: 95223; Pricing 1: 1=0.76, 10=0.708, 25=0.6372, 50=0.5664, 100=0.5428, 250=0.4956, 500=0.472, 1000=0.3894, 2500=0.354 (USD); Mount: Through Hole; Color: Black; Contact Material: Copper; Contact Plating: Nickel; Housing Color: Black; Housing Material: Thermoplastic; Min Operating Temperature: -25°C; Max Operating Temperature: 85°C; Package Quantity: 280; Termination: Through Hole; Connector Type: Jack; Contact Gender: Male; Orientation: Horizontal; Packaging: Bulk; Diameter: 2.1mm; Lead Free: Lead Free; Flammability Rating: UL94 V-0; Supplier Part Number 1: CP-102AH-ND; Manufacturer Part Number: PJ-102AH
footprint PJ-102AH
pins: 1, 2, 3

## PMEG3050EP,115
designator D?  Max Voltage: 30V  Package: SOD-128  (hidden comment: PMEG3050EP,115)
Schottky diode; Manufacturer: Nexperia; Forward Voltage: 315mV; Supplier 1: Digi-Key; Stock 1: 4267; Pricing 1: 1=0.53, 10=0.45, 25=0.42, 100=0.312, 250=0.2964, 500=0.2436, 1000=0.198 (USD); ComponentLink1URL: http://www.farnell.com/datasheets/609324.pdf?src-supplier=Element14; ComponentLink1Description: http://www.farnell.com/datasheets/609324.pdf?src-supplier=Element14; ComponentLink2URL: https://assets.nexperia.com/documents/data-sheet/PMEG3050EP.pdf?src-supplier=Digi-Key; ComponentLink2Description: https://assets.nexperia.com/documents/data-sheet/PMEG3050EP.pdf?src-supplier=Digi-Key; ComponentLink3URL: http://www.farnell.com/datasheets/609324.pdf?src-supplier=Farnell; ComponentLink3Description: http://www.farnell.com/datasheets/609324.pdf?src-supplier=Farnell; Supplier Part Number 1: 1727-5317-1-ND; house_part_number: PMEG3050EP; Manufacturer Part Number: PMEG3050EP,115
footprint SOD128
pins: 1, 2

## PPTC051LGBN-RC
designator J?, comment mmWave  Manufacturer Part Number: PPTC051LGBN-RC
5-Pin angled female header with mmWave radar board.; Manufacturer: Sullins; Manufacturer Series: PP; Connector Type: BOARD CONNECTOR; Contact Pattern: RECTANGULAR; Contact Style: SQ PIN-SKT; Number Of Connectors: 1; Polarization Key: POLARIZED HOUSING; Rated Current (Signal): 3A; Number of Contacts: 5; Body Breadth: 0.094inch; Body Length: 0.52inch; Mating Contact Pitch: 0.1inch; Mounting Option 1: LOCKING; Reference Standard: UL; Reliability: COMMERCIAL; Supplier 1: Digikey; RoHS: Yes; Category: Connectors; Stock 1: 3109; Pricing 1: 1=0.56, 10=0.453, 80=0.37638, 440=0.32355, 1000=0.30082, 5000=0.2899 (USD); Mounting Technology: Board; Contact Material: Bronze; Contact Finish - Mating: SN; Contact Finish - Termination: TIN; Insulation Material: Polyester; Contact Gender: Female; Mounting Style: RIGHT ANGLE; Number Of PCB Rows: 1; Number of Rows Loaded: 1; PCB Contact Pattern: RECTANGULAR; Termination: Solder; Terminal Length: 0.125inch; Terminal Pitch: 2.54mm; Reach SVHC Compliant: Yes; RoHS Compliant: Yes; ComponentLink1URL: https://datasheet.ciiva.com:443/pdfs/VipMasterIC/IC/SUCS/SUCSS00270/SUCSS00270-1.pdf?src-supplier=IHS+Markit; ComponentLink1Description: https://datasheet.ciiva.com:443/pdfs/VipMasterIC/IC/SUCS/SUCSS00270/SUCSS00270-1.pdf?src-supplier=IHS+Markit; ComponentLink2URL: https://s3.amazonaws.com/catalogspreads-pdf/PAGE114-115%20.100%20FEMALE%20HDR.pdf?src-supplier=Digikey; ComponentLink2Description: https://s3.amazonaws.com/catalogspreads-pdf/PAGE114-115%20.100%20FEMALE%20HDR.pdf?src-supplier=Digikey; ComponentLink3URL: https://datasheet.octopart.com/PPTC051LGBN-RC-Sullins-datasheet-41308905.pdf?src-supplier=Future+Electronics; ComponentLink3Description: https://datasheet.octopart.com/PPTC051LGBN-RC-Sullins-datasheet-41308905.pdf?src-supplier=Future+Electronics; ComponentLink4URL: http://www.sullinscorp.com/catalogs/78_Page80-81_HEADER_.100_2.54mm_FEMALE.pdf?src-supplier=Future+Electronics; ComponentLink4Description: http://www.sullinscorp.com/catalogs/78_Page80-81_HEADER_.100_2.54mm_FEMALE.pdf?src-supplier=Future+Electronics; Supplier Part Number 1: S5441-ND
footprint radar_angled_1 (5-pin 0.1" header)
footprint radar_angled_2 (5-pin 0.1" header)
footprint radar_stright (5-pin 0.1" header)
pins: 1 TX (out) "Serial port Tx pin", 2 RX (in) "Serial port Rx pin", 3 OUT (out) "Human presence: high=detected, low=not detected", 4 GND (power) "Power ground", 5 VCC (power) "Power supply (5-12V)"

## RA1H1C112R
designator SW?  Manufacturer Part Number: RA1H1C112R  Contact Current(AC)-Max: 16A  (hidden comment: *)
Rocker Switch, SPST, through-hole, right angle; Manufacturer: E-Switch; Actuator Material: Polyamide; Actuator Color: Black; End Contact Material: Silver; Contact AC Max Rating R Load: 16A@125VAC; Contact Function: Off-On; Contact Resistance: 0.035mR; Contact Voltage(AC)-Max: 125V; Dielectric Withstand Volts: 1000VACV; Electrical Life: 50000Cycles; Insulation Resistance: 100MR; Switch Action: MAINTAINED; Actuator Length: 0.236inch; Body Breadth: 12.9032inch; Body Height: 16.6116mm; Body Length or Diameter: 18.4912mm; Supplier 1: Digi-Key; RoHS: Yes; Category: Rocker Switches; Stock 1: 21149; Pricing 1: 1=1.06, 10=0.941, 25=0.8932, 50=0.8494, 100=0.8097, 250=0.774, 500=0.69462, 1000=0.65493 (USD); Contact Material: Silver; Body Color: Black; Insulation Material: Polyamide; Terminal Material: Copper; Min Operating Temperature: -20°C; Actuator Type: Rocker; Switch Function: SPST; Switch Type: Rocker; Termination: Solder; Terminal Length: 0.185inch; Reach SVHC Compliant: Yes; RoHS Compliant: Yes; ComponentLink1URL: https://datasheet.ciiva.com:443/pdfs/VipMasterIC/IC/ESCH/ESCH-S-A0005338377/ESCH-S-A0005350144-1.pdf?src-supplier=IHS+Markit; ComponentLink1Description: https://datasheet.ciiva.com:443/pdfs/VipMasterIC/IC/ESCH/ESCH-S-A0005338377/ESCH-S-A0005350144-1.pdf?src-supplier=IHS+Markit; ComponentLink2URL: https://datasheet.ciiva.com/6470/38-ra1h1c112r-6470502.pdf?src-supplier=Digi-Key; ComponentLink2Description: https://datasheet.ciiva.com/6470/38-ra1h1c112r-6470502.pdf?src-supplier=Digi-Key; Supplier Part Number 1: EG5626-ND
footprint RA1H1C112R (Rocker Switch)
pins: 1 (power), 2 (power)

## RC0402FR-071K65L
designator R?  Resistance: 1.65kΩ  Case/Package: 0402  (hidden comment: *)
1.65 kΩ, 1%, 0402 Chip capacitor; Manufacturer: Yageo; Manufacturer Part Number: RC0402FR-071K65L; Additional Feature: LASER TRIMMABLE; Power: 62.5mW; Rated Temperature: 70°C; Working Voltage: 50V; Temperature Coefficient (ppm/Cel): 100; Package Height: 0.35mm; Package Length: 1mm; Package Width: 0.5mm; Supplier 1: Digikey; RoHS: Yes; Category: Chip SMD Resistors; Stock 1: 267119; Pricing 1: 1=0.1, 10=0.004, 50=0.0036, 100=0.0031, 500=0.00294, 10000=0.00204, 20000=0.00179, 30000=0.0016, 50000=0.00149, 70000=0.00139 (USD); Mounting Technology: Surface Mount; Pins: 2; Package Shape: Rectangular; Terminal Finish: Nickel; Min Operating Temperature: -55°C; Max Operating Temperature: 155°C; Tolerance: 1%; JESD-609 Code: e3; Resistor Type: FIXED RESISTOR; Construction: Chip; Packaging: Tape and Reel; Technology: METAL GLAZE/THICK FILM; Termination: Wraparound; Reach SVHC Compliant: Yes; RoHS Compliant: Yes; ComponentLink1URL: https://datasheet.ciiva.com:443/pdfs/VipMasterIC/IC/YAGO/YAGO-S-A0008145938/YAGO-S-A0008145938-1.pdf?src-supplier=IHS+Markit; ComponentLink1Description: https://datasheet.ciiva.com:443/pdfs/VipMasterIC/IC/YAGO/YAGO-S-A0008145938/YAGO-S-A0008145938-1.pdf?src-supplier=IHS+Markit; ComponentLink2URL: https://datasheet.ciiva.com/26829/getdatasheetpartid-323718-26829959.pdf?src-supplier=Verical; ComponentLink2Description: https://datasheet.ciiva.com/26829/getdatasheetpartid-323718-26829959.pdf?src-supplier=Verical; ComponentLink3URL: https://datasheet.ciiva.com/8895/pyu-rc0402-51-rohs-l-6-8895143.pdf?src-supplier=Avnet; ComponentLink3Description: https://datasheet.ciiva.com/8895/pyu-rc0402-51-rohs-l-6-8895143.pdf?src-supplier=Avnet; ComponentLink4URL: https://datasheet.ciiva.com/17068/pyu-rc0402-51-rohs-l-6-r-17068206.pdf?src-supplier=Future+Electronics; ComponentLink4Description: https://datasheet.ciiva.com/17068/pyu-rc0402-51-rohs-l-6-r-17068206.pdf?src-supplier=Future+Electronics; Supplier Part Number 1: YAG3043CT-ND
footprint 0402_resistor (Chip Resistor, 2-Leads, Body 1.00x0.50mm, IPC Medium Density)
pins: 1, 2

## RC0402FR-071ML
designator R?  Size Code: 0402  Resistance: 1MΩ  (hidden comment: RC0402FR-071ML)
1 MΩ, 1%, 0402 Resistor; Manufacturer: Yageo; House Part Number: R-1M-0402-1%-001; Additional Feature: LASER TRIMMABLE; Rated Power Dissipation (P): 62.5mW; Rated Temperature: 70°C; Temperature Coefficient: 100ppm/°C; Working Voltage: 50V; Package Height: 0.35mm; Package Length: 1mm; Package Width: 0.5mm; Supplier 1: Digi-Key; Manufacturer Part Number: RC0402FR-071ML; RoHS: Yes; Category: Chip SMD Resistors; Stock 1: 7104113; Pricing 1: 1=0.10000, 10=0.01500, 100=0.00600, 1000=0.00267, 2500=0.00232, 5000=0.00192 (USD); Mount: Surface Mount; Number of Pins: 2; Package Shape: Rectangular; Terminal Finish: Nickel; Min Operating Temperature: -55°C; Max Operating Temperature: 155°C; Tolerance: 1%; JESD-609 Code: e3; Resistor Type: FIXED RESISTOR; Construction: Chip; Package Style: SMTMeter; Packaging: Tape and Reel; Technology: METAL GLAZE/THICK FILM; Termination: Wraparound; Reach SVHC Compliant: Yes; RoHS Compliant: Yes; ComponentLink1URL: https://datasheet.ciiva.com:443/pdfs/VipMasterIC/IC/YAGO/YAGO-S-A0008145938/YAGO-S-A0008145938-1.pdf?src-supplier=IHS+Markit; ComponentLink1Description: https://datasheet.ciiva.com:443/pdfs/VipMasterIC/IC/YAGO/YAGO-S-A0008145938/YAGO-S-A0008145938-1.pdf?src-supplier=IHS+Markit; ComponentLink2URL: http://www.farnell.com/datasheets/1836115.pdf?src-supplier=Farnell; ComponentLink2Description: http://www.farnell.com/datasheets/1836115.pdf?src-supplier=Farnell; ComponentLink3URL: http://www.farnell.com/datasheets/2167052.pdf?src-supplier=Farnell; ComponentLink3Description: http://www.farnell.com/datasheets/2167052.pdf?src-supplier=Farnell; ComponentLink4URL: http://www.farnell.com/datasheets/2167052.pdf?src-supplier=Element14; ComponentLink4Description: http://www.farnell.com/datasheets/2167052.pdf?src-supplier=Element14; Supplier Part Number 1: 311-1.00MLRCT-ND
footprint 0402_resistor (Chip Resistor, 2-Leads, Body 1.00x0.50mm, IPC Medium Density)
pins: 1, 2

## RC0402FR-0722K1L
designator R?  value 22.1kΩ  Case/Package: 0402  (hidden comment: *)
22.1 kΩ, 1%, 0402 Resistor; Manufacturer: Yageo; Manufacturer Part Number: RC0402FR-0722K1L; Additional Feature: LASER TRIMMABLE; Power: 62.5mW; Rated Temperature: 70°C; Working Voltage: 50V; Temperature Coefficient (ppm/Cel): 100; Package Height: 0.35mm; Package Length: 1mm; Package Width: 0.5mm; Supplier 1: Digikey; RoHS: Yes; Category: Chip SMD Resistors; Stock 1: 259657; Pricing 1: 1=0.1, 10=0.008, 100=0.0061, 1000=0.0051, 10000=0.00123 (USD); Mounting Technology: Surface Mount; Pins: 2; Package Shape: Rectangular; Terminal Finish: Nickel; Min Operating Temperature: -55°C; Max Operating Temperature: 155°C; Tolerance: 1%; JESD-609 Code: e3; Resistor Type: FIXED RESISTOR; Construction: Chip; Packaging: Tape and Reel; Technology: METAL GLAZE/THICK FILM; Termination: Wraparound; Reach SVHC Compliant: Yes; RoHS Compliant: Yes; ComponentLink1URL: https://datasheet.ciiva.com:443/pdfs/VipMasterIC/IC/YAGO/YAGO-S-A0008145938/YAGO-S-A0008145938-1.pdf?src-supplier=IHS+Markit; ComponentLink1Description: https://datasheet.ciiva.com:443/pdfs/VipMasterIC/IC/YAGO/YAGO-S-A0008145938/YAGO-S-A0008145938-1.pdf?src-supplier=IHS+Markit; ComponentLink2URL: https://datasheet.ciiva.com/2553/pyu-r-int-thick-7-2553200.pdf?src-supplier=Digikey; ComponentLink2Description: https://datasheet.ciiva.com/2553/pyu-r-int-thick-7-2553200.pdf?src-supplier=Digikey; ComponentLink3URL: https://datasheet.ciiva.com/2553/pyu-r-int-thick-7-2553201.pdf?src-supplier=Digikey; ComponentLink3Description: https://datasheet.ciiva.com/2553/pyu-r-int-thick-7-2553201.pdf?src-supplier=Digikey; ComponentLink4URL: https://datasheet.ciiva.com/2553/pyu-r-int-thick-7-2553202.pdf?src-supplier=Digikey; ComponentLink4Description: https://datasheet.ciiva.com/2553/pyu-r-int-thick-7-2553202.pdf?src-supplier=Digikey; ComponentLink5URL: https://datasheet.ciiva.com/15189/getdatasheetpartid-251817-15189388.pdf?src-supplier=Verical; ComponentLink5Description: https://datasheet.ciiva.com/15189/getdatasheetpartid-251817-15189388.pdf?src-supplier=Verical; ComponentLink6URL: https://datasheet.ciiva.com/7983/1018594-7983501.pdf?src-supplier=Element14; ComponentLink6Description: https://datasheet.ciiva.com/7983/1018594-7983501.pdf?src-supplier=Element14; Supplier Part Number 1: 311-22.1KLRCT-ND
footprint 0402_resistor (Chip Resistor, 2-Leads, Body 1.00x0.50mm, IPC Medium Density)
pins: 1, 2

## RC0402FR-0760K4L
designator R?  Resistance: 60.4kΩ  Case/Package: 0402  (hidden comment: *)
60.4 kΩ, 1%, 0402 Chip resistor; Manufacturer: Yageo; Manufacturer Part Number: RC0402FR-0760K4L; Additional Feature: LASER TRIMMABLE; Power: 62.5mW; Rated Temperature: 70°C; Working Voltage: 50V; Temperature Coefficient (ppm/Cel): 100; Package Height: 0.35mm; Package Length: 1mm; Package Width: 0.5mm; Supplier 1: Digikey; RoHS: Yes; Category: Chip SMD Resistors; Stock 1: 167907; Pricing 1: 1=0.1, 10=0.015, 50=0.009, 100=0.0074, 500=0.00488, 1000=0.00413, 5000=0.00293, 10000=0.00257, 20000=0.00228, 30000=0.00214, 50000=0.00198, 70000=0.00188, 100000=0.00179, 250000=0.0016, 500000=0.00149, 1000000=0.00139 (USD); Mounting Technology: Surface Mount; Pins: 2; Package Shape: Rectangular; Terminal Finish: Nickel; Min Operating Temperature: -55°C; Max Operating Temperature: 155°C; Tolerance: 1%; Termination: Wraparound; JESD-609 Code: e3; Resistor Type: FIXED RESISTOR; Construction: Chip; Packaging: Tape and Reel; Technology: METAL GLAZE/THICK FILM; Reach SVHC Compliant: Yes; RoHS Compliant: Yes; ComponentLink1URL: https://datasheet.ciiva.com:443/pdfs/VipMasterIC/IC/YAGO/YAGO-S-A0008145938/YAGO-S-A0008145938-1.pdf?src-supplier=IHS+Markit; ComponentLink1Description: https://datasheet.ciiva.com:443/pdfs/VipMasterIC/IC/YAGO/YAGO-S-A0008145938/YAGO-S-A0008145938-1.pdf?src-supplier=IHS+Markit; ComponentLink2URL: https://datasheet.ciiva.com/8888/pyu-rc0402-51-rohs-l-6-8888622.pdf?src-supplier=Avnet; ComponentLink2Description: https://datasheet.ciiva.com/8888/pyu-rc0402-51-rohs-l-6-8888622.pdf?src-supplier=Avnet; ComponentLink3URL: https://datasheet.ciiva.com/17068/pyu-rc0402-51-rohs-l-6-r-17068614.pdf?src-supplier=Future+Electronics; ComponentLink3Description: https://datasheet.ciiva.com/17068/pyu-rc0402-51-rohs-l-6-r-17068614.pdf?src-supplier=Future+Electronics; Supplier Part Number 1: 311-60.4KLRCT-ND
footprint 0402_resistor (Chip Resistor, 2-Leads, Body 1.00x0.50mm, IPC Medium Density)
pins: 1, 2

## RC0402FR-07510KL
designator R?  Case/Package: 0402  Resistance: 510kΩ  (hidden comment: RC0402FR-07510KL)
510 kΩ, 1%, 0402 Resistor; Manufacturer: Yageo; House Part Number: R-510k-0402-1%-001; Power Rating: 63mW; Voltage Rating: 50V; Temperature Coefficient: 100ppm/°C; Supplier 1: Avnet; Manufacturer Part Number: RC0402FR-07510KL; RoHS: Yes; Category: Chip SMD Resistors; Stock 1: 50000; Pricing 1: 10000=0.00085 (USD); Case Code (Imperial): 0402; Case Code (Metric): 1005; Size Code: 0402; Min Operating Temperature: -55°C; Max Operating Temperature: 155°C; Tolerance: 1%; Termination: SMD/SMT; Resistor Type: Thick Film; Number of Terminations: 2; Max Power Dissipation: 63mW; Features: Moisture Resistant; Series: RC; Construction: Rectangular; Package Quantity: 1; Voltage Rating (DC): 50V; Technology: THICK FILM; Length: 1mm; Width: 0.02inch; Height: 0.016inch; Depth: 0.5mm; RoHS Compliant: Yes; Military Standard: Not; Lead Free: Lead Free; ComponentLink1URL: https://datasheet.ciiva.com/11808/0900766b80c66297-11808810.pdf?src-supplier=RSComponents; ComponentLink1Description: https://datasheet.ciiva.com/11808/0900766b80c66297-11808810.pdf?src-supplier=RSComponents; ComponentLink2URL: https://datasheet.ciiva.com/2453/pyu-r-int-thick-7-2453464.pdf?src-supplier=Digi-Key; ComponentLink2Description: https://datasheet.ciiva.com/2453/pyu-r-int-thick-7-2453464.pdf?src-supplier=Digi-Key; ComponentLink3URL: https://datasheet.ciiva.com/2453/pyu-r-int-thick-7-2453465.pdf?src-supplier=Digi-Key; ComponentLink3Description: https://datasheet.ciiva.com/2453/pyu-r-int-thick-7-2453465.pdf?src-supplier=Digi-Key; ComponentLink4URL: https://datasheet.ciiva.com/2453/pyu-r-int-thick-7-2453463.pdf?src-supplier=Digi-Key; ComponentLink4Description: https://datasheet.ciiva.com/2453/pyu-r-int-thick-7-2453463.pdf?src-supplier=Digi-Key; ComponentLink5URL: https://datasheet.ciiva.com/17419/pyu-rc0402-51-rohs-l-6-r-17419596.pdf?src-supplier=Future+Electronics; ComponentLink5Description: https://datasheet.ciiva.com/17419/pyu-rc0402-51-rohs-l-6-r-17419596.pdf?src-supplier=Future+Electronics; Packaging: Tape and Reel; Supplier Part Number 1: RC0402FR-07510KL; Resistance Tolerance: 1%
footprint 0402_resistor (Chip Resistor, 2-Leads, Body 1.00x0.50mm, IPC Medium Density)
pins: 1, 2

## RMCF0402FT10K0
designator R?  Case Code (Imperial): 0402  Resistance: 10kΩ  (hidden comment: RMCF0402FT10K0)
10 kΩ, 0402 Chip resistor; Manufacturer: Stackpole Electronics; house_part_number: R-10k-0402-1%-001; Tolerance: 1%; Power Rating: 62.5mW; Temperature Coefficient: 100ppm/°C; Max Power Dissipation: 63mW; Supplier 1: Digi-Key; Manufacturer Part Number: RMCF0402FT10K0; RoHS: Yes; Category: Chip SMD Resistors; Stock 1: 7219214; Pricing 1: 1=0.10000, 10=0.01300, 100=0.00530, 1000=0.00239, 2500=0.00207, 5000=0.00171 (USD); Mount: Surface Mount; Case/Package: 0402; Case Code (Metric): 1005; Contact Plating: Tin,Matte; Size Code: 0402; Min Operating Temperature: -55°C; Max Operating Temperature: 155°C; Packaging: Tape and Reel; Resistor Type: Thick Film; Number of Terminations: 2; Features: Automotive AEC-Q200; Series: RMCF; Construction: Rectangular; Length: 1mm; Width: 0.02inch; Height: 0.016inch; Depth: 0.5mm; Radiation Hardening: No; Military Standard: Not; Lead Free: Lead Free; RoHS Compliant: Yes; ComponentLink1URL: https://datasheet.ciiva.com/24341/sei-rmcp-24341800.pdf?src-supplier=Onlinecomponents.com; ComponentLink1Description: https://datasheet.ciiva.com/24341/sei-rmcp-24341800.pdf?src-supplier=Onlinecomponents.com; Supplier Part Number 1: RMCF0402FT10K0CT-ND
footprint 0402_resistor (0402 chip resistor)
pins: 1, 2

## RMCF0402FT27R0
designator R?  Resistance: 27Ω  Size Code: 0402  (hidden comment: RMCF0402FT27R0)
27 Ω, 0402 Chip resistor; Manufacturer: Stackpole Electronics; house_part_number: R-27-0402-1%-001; Tolerance: 1%; Rated Power Dissipation (P): 63mW; Rated Temperature: 70°C; Temperature Coefficient: 100ppm/°C; Working Voltage: 50V; Package Height: 0.3mm; Package Length: 1mm; Package Width: 0.5mm; Reference Standard: AEC-Q200; Supplier 1: Digi-Key; Supplier Part Number 1: RMCF0402FT27R0CT-ND; RoHS: Yes; Category: Chip SMD Resistors; Stock 1: 3710; Pricing 1: 1=0.10000, 10=0.01500, 100=0.00610, 1000=0.00274, 2500=0.00238, 5000=0.00197 (USD); Mount: Surface Mount; Number of Pins: 2; Package Shape: Rectangular; Terminal Finish: Nickel; Min Operating Temperature: -55°C; Max Operating Temperature: 155°C; JESD-609 Code: e3; Resistor Type: FIXED RESISTOR; Construction: Rectangular; Package Style: SMTMeter; Packaging: Tape and Reel; Technology: METAL GLAZE/THICK FILM; Termination: Wraparound; REACH SVHC: Yes; RoHS Compliant: Yes; ComponentLink1URL: https://datasheet.ciiva.com:443/pdfs/VipMasterIC/IC/SEIE/SEIE-S-A0009541969/SEIE-S-A0009541969-1.pdf?src-supplier=IHS+Markit; ComponentLink1Description: https://datasheet.ciiva.com:443/pdfs/VipMasterIC/IC/SEIE/SEIE-S-A0009541969/SEIE-S-A0009541969-1.pdf?src-supplier=IHS+Markit; ComponentLink2URL: https://www.seielect.com/catalog/SEI-RMCF_RMCP.pdf?src-supplier=Avnet; ComponentLink2Description: https://www.seielect.com/catalog/SEI-RMCF_RMCP.pdf?src-supplier=Avnet; ComponentLink3URL: https://www.seielect.com/catalog/sei-rmcf_rmcp.pdf?src-supplier=Digi-Key; ComponentLink3Description: https://www.seielect.com/catalog/sei-rmcf_rmcp.pdf?src-supplier=Digi-Key; ComponentLink4URL: http://www.seielect.com/Catalog/SEI-RMCF_RMCP.pdf?src-supplier=Digi-Key; ComponentLink4Description: http://www.seielect.com/Catalog/SEI-RMCF_RMCP.pdf?src-supplier=Digi-Key; Manufacturer Part Number: RMCF0402FT27R0
footprint 0402_resistor (Chip Resistor, 2-Leads, Body 1.00x0.50mm, IPC Medium Density)
pins: 1, 2

## RMCF0402FT49R9
designator R?  Resistance: 49.9Ω  Case Code (Imperial): 0402  (hidden comment: RMCF0402FT49R9)
49.9 Ω, 0402 Chip resistor; Manufacturer: Stackpole Electronics; house_part_number: R-49.9-0402-1%-001; Tolerance: 1%; Power Rating: 63mW; Temperature Coefficient: 100ppm/°C; Supplier 1: Digi-Key; Supplier Part Number 1: RMCF0402FT49R9CT-ND; RoHS: Yes; Category: Chip SMD Resistors; Stock 1: 723706; Pricing 1: 1=0.10000, 10=0.01300, 100=0.00530, 1000=0.00238, 2500=0.00207, 5000=0.00171 (USD); Mount: Surface Mount; Case Code (Metric): 1005; Contact Plating: Tin,Matte; Size Code: 0402; Min Operating Temperature: -55°C; Max Operating Temperature: 155°C; Packaging: Tape and Reel; Resistor Type: Thick Film; Number of Terminations: 2; Max Power Dissipation: 63mW; Features: Automotive AEC-Q200; Series: RMCF; Construction: Rectangular; Length: 1mm; Width: 0.02inch; Height: 0.016inch; Depth: 0.5mm; Radiation Hardening: No; Military Standard: Not; Lead Free: Lead Free; RoHS Compliant: Yes; ComponentLink1URL: http://components.arrow.com/part/dataview/44987983S6966749N1174?src-supplier=Arrow+Electronics; ComponentLink1Description: http://components.arrow.com/part/dataview/44987983S6966749N1174?src-supplier=Arrow+Electronics; ComponentLink2URL: https://www.verical.com/server-webapp/html/getDatasheet?partID=362596&src-supplier=Verical; ComponentLink2Description: https://www.verical.com/server-webapp/html/getDatasheet?partID=362596&src-supplier=Verical; ComponentLink3URL: http://www.seielect.com/Catalog/SEI-RMCF_RMCP.pdf?src-supplier=Future+Electronics; ComponentLink3Description: http://www.seielect.com/Catalog/SEI-RMCF_RMCP.pdf?src-supplier=Future+Electronics; ComponentLink4URL: https://www.seielect.com/catalog/SEI-RMCF_RMCP.pdf?src-supplier=Avnet; ComponentLink4Description: https://www.seielect.com/catalog/SEI-RMCF_RMCP.pdf?src-supplier=Avnet; ComponentLink5URL: https://www.seielect.com/Catalog/SEI-RMCF_RMCP.pdf?src-supplier=Digi-Key; ComponentLink5Description: https://www.seielect.com/Catalog/SEI-RMCF_RMCP.pdf?src-supplier=Digi-Key; Manufacturer Part Number: RMCF0402FT49R9; Case/Package: 0402
footprint 0402_resistor (0402 chip resistor)
pins: 1, 2